# Altium schematic symbol library FM_Receiver.SchLib: 1 symbol
Pins are listed as number, name and electrical type; pins without a type are passive.

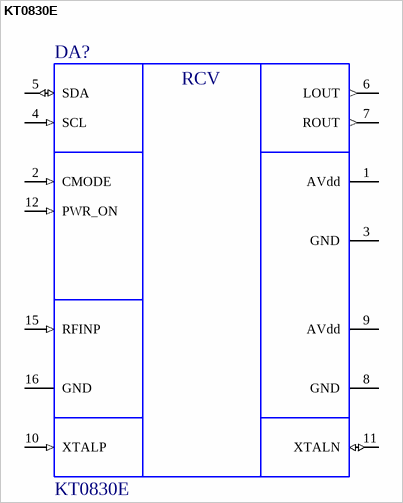
[diagram p0: symbol KT0830E]

## KT0830E
designator DA?
Stereo FM Receiver; ValueSch: KT0830E
pins: 1 AVdd (power), 2 CMODE (in) "High TEA5767 compatible", 3 GND (power), 4 SCL (in) "I2C clock input", 5 SDA (io) "I2C data input/output", 6 LOUT (out) "Left chennel out with 16 ohm drv", 7 ROUT (out) "Right chennel out with 16 ohm drv", 8 GND (power), 9 AVdd (power) "Power supply", 10 XTALP (in) "cristal input referenc clock inp", 11 XTALN (io) "cristal input", 12 PWR_ON (in) "High for normal operation", 13 NC hidden "Not connection", 14 NC hidden "Not connection", 15 RFINP (in) "RF signal input", 16 GND (power)
text: RCV